# EAGLE library part 74HCT138D (library NXP_By_element14_Batch_1)
3-to-8 line decoder/demultiplexer
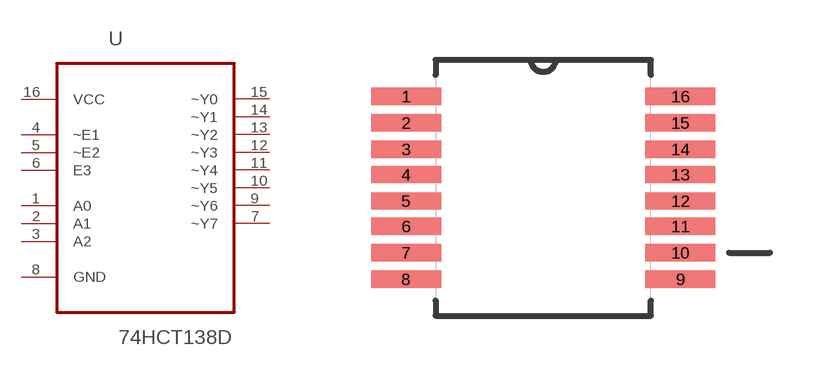
[diagram p173: symbol with the pads of SOP65P775X200-16N; footprint SOP65P775X200-16N]

Designator prefix U

## 74HCT138D (MPN: 74HCT138D; OC_FARNELL: 1201307; OC_NEWARK: 26M7747; P1I: o; PACKAGE: SSOP-16; SUPPLIER: NXP)  [SOP65P775X200-16N]
1  A0  in
2  A1  in
3  A2  in
4  ~E1  in
5  ~E2  in
6  E3  in
7  ~Y7  out
8  GND  pas
9  ~Y6  out
10  ~Y5  out
11  ~Y4  out
12  ~Y3  out
13  ~Y2  out
14  ~Y1  out
15  ~Y0  out
16  VCC  pwr

## Footprint SOP65P775X200-16N (pad centres in mm)
smd 1.753 x 0.432: 1 -3.429,2.286; 2 -3.429,1.626; 3 -3.429,0.965; 4 -3.429,0.33; 5 -3.429,-0.33; 6 -3.429,-0.965; 7 -3.429,-1.626; 8 -3.429,-2.286; 9 3.429,-2.286; 10 3.429,-1.626; 11 3.429,-0.965; 12 3.429,-0.33; 13 3.429,0.33; 14 3.429,0.965; 15 3.429,1.626; 16 3.429,2.286